# Altium integrated library ST Interface Line Driver.IntLib: 5 symbols
Pins are listed as number, name and electrical type; pins without a type are passive.

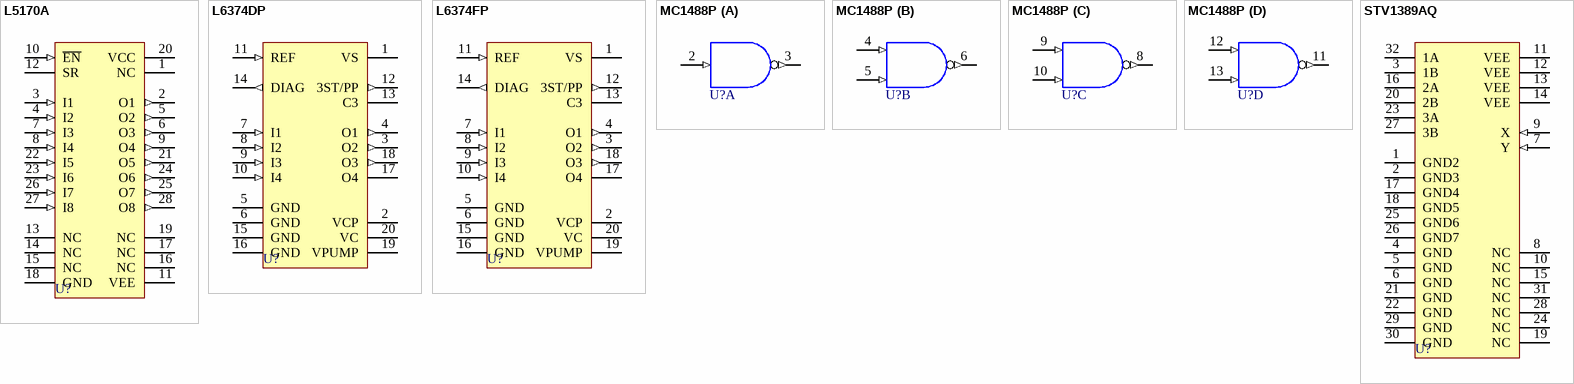
[diagram p0: symbols L5170A to STV1389AQ]

## L5170A
designator U?
Octal Line Driver; Published: 8-Jun-2000; LatestRevisionDate: 6-Jun-2005; LatestRevisionNote: Stylized 3D Model Added.; DatasheetDocument: Mar-1993; PackageDocument: Jan-2003; PackageReference: PDIP28; Publisher: Altium Limited; ComponentLink1Description: Manufacturer Link; ComponentLink1URL: http://www.st.com/
footprint PDIP28 (DIP; 28 Leads; Row Spacing 15.24 mm; Pitch 2.54 mm)
3D model PDIP28 (DIP; 28 Leads; Row Spacing 15.24 mm; Pitch 2.54 mm)
pins: 1 NC, 2 O1 (out), 3 I1 (in), 4 I2 (in), 5 O2 (out), 6 O3 (out), 7 I3 (in), 8 I4 (in), 9 O4 (out), 10 ~{EN} (in), 11 VEE (power), 12 SR, 13 NC, 14 NC, 15 NC, 16 NC, 17 NC, 18 GND (power), 19 NC, 20 VCC (power), 21 O5 (out), 22 I5 (in), 23 I6 (in), 24 O6 (out), 25 O7 (out), 26 I7 (in), 27 I8 (in), 28 O8 (out)

## L6374DP
designator U?
Industrial Quad Line Driver; Published: 8-Jun-2000; LatestRevisionDate: 6-Jun-2005; LatestRevisionNote: Stylized 3D Model Added.; DatasheetDocument: Dec-1994; PackageDocument: Mar-1995; PackageReference: PwrDIP20; Publisher: Altium Limited; ComponentLink1Description: Manufacturer Link; ComponentLink1URL: http://www.st.com/; ComponentLink2Description: Datasheet; ComponentLink2URL: http://www.st.com/stonline/products/literature/ds/1578/l6374.pdf
footprint PwrDIP20 (DIP; 20 Leads; Row Spacing 7.62 mm; Pitch 2.54 mm)
3D model PwrDIP20 (DIP; 20 Leads; Row Spacing 7.62 mm; Pitch 2.54 mm)
pins: 1 VS (power), 2 VCP, 3 O2 (out), 4 O1 (out), 5 GND (power), 6 GND (power), 7 I1 (in), 8 I2 (in), 9 I3 (in), 10 I4 (in), 11 REF (in), 12 3ST/PP (out), 13 C3, 14 DIAG (out), 15 GND (power), 16 GND (power), 17 O4 (power), 18 O3 (out), 19 VPUMP, 20 VC

## L6374FP
designator U?
Industrial Quad Line Driver; Published: 8-Jun-2000; LatestRevisionDate: 6-Jun-2005; LatestRevisionNote: Stylized 3D Model Added.; DatasheetDocument: Dec-1994; PackageDocument: Jul-2001; PackageReference: SO20; Publisher: Altium Limited; Code_JEDEC: MS-013-AC; Code_IPC: SO20W; ComponentLink1Description: Manufacturer Link; ComponentLink1URL: http://www.st.com/; ComponentLink2Description: Datasheet; ComponentLink2URL: http://www.st.com/stonline/products/literature/ds/1578/l6374.pdf
footprint SO20 (Small Outline, Plastic; 20 Leads; Body Width 7.5 mm; Pitch 1.27 mm)
3D model SO20 (Small Outline, Plastic; 20 Leads; Body Width 7.5 mm; Pitch 1.27 mm)
pins: 1 VS (power), 2 VCP, 3 O2 (out), 4 O1 (out), 5 GND (power), 6 GND (power), 7 I1 (in), 8 I2 (in), 9 I3 (in), 10 I4 (in), 11 REF (in), 12 3ST/PP (out), 13 C3, 14 DIAG (out), 15 GND (power), 16 GND (power), 17 O4 (power), 18 O3 (out), 19 VPUMP, 20 VC

## MC1488P
designator U?
RS232C Quad Line Driver; Published: 8-Jun-2000; LatestRevisionDate: 6-Jun-2005; LatestRevisionNote: Stylized 3D Model Added.; DatasheetDocument: Apr-1993; PackageDocument: Jan-1997; PackageReference: DIP14; Publisher: Altium Limited; ComponentLink1Description: Manufacturer Link; ComponentLink1URL: http://www.st.com/
footprint DIP14 (DIP; 14 Leads; Row Spacing 7.62 mm; Pitch 2.54 mm)
3D model DIP14 (DIP; 14 Leads; Row Spacing 7.62 mm; Pitch 2.54 mm)
pins on every part: 1 VEE (power) hidden to VEE, 7 GND (power) hidden to GND, 14 VCC (power) hidden to VCC
part A pins: 2 A (in), 3 C (out)
part B pins: 4 A (in), 5 B (in), 6 C (out)
part C pins: 8 C (out), 9 A (in), 10 B (in)
part D pins: 11 C (out), 12 A (in), 13 B (in)

## STV1389AQ
designator U?
Cable Driver For Digital Transfer; PackageDocument: 1994; Published: 8-Jun-2000; LatestRevisionDate: 6-Jun-2005; LatestRevisionNote: Stylized 3D Model Added.; DatasheetDocument: Nov-1992; PackageReference: QFP32; Publisher: Altium Limited; ComponentLink1Description: Manufacturer Link; ComponentLink1URL: http://www.st.com/
footprint QFP32 (QFP; 32 Leads; Body 7 x 7 mm; Pitch 0.8 mm)
3D model STV1389AQ-QFP32 (QFP; 32 Leads; Body 7 x 7 mm; Pitch 0.8 mm)
pins: 1 GND2 (power), 2 GND3 (power), 3 1B (oe), 4 GND (power), 5 GND (power), 6 GND (power), 7 Y (in), 8 NC, 9 X (in), 10 NC, 11 VEE (power), 12 VEE (power), 13 VEE (power), 14 VEE (power), 15 NC, 16 2A (oe), 17 GND4 (power), 18 GND5 (power), 19 NC, 20 2B (oe), 21 GND (power), 22 GND (power), 23 3A (oe), 24 NC, 25 GND6 (power), 26 GND7 (power), 27 3B (oe), 28 NC, 29 GND (power), 30 GND (power), 31 NC, 32 1A (oe)